# EAGLE library part PCF8523 (library IntegerLabs)
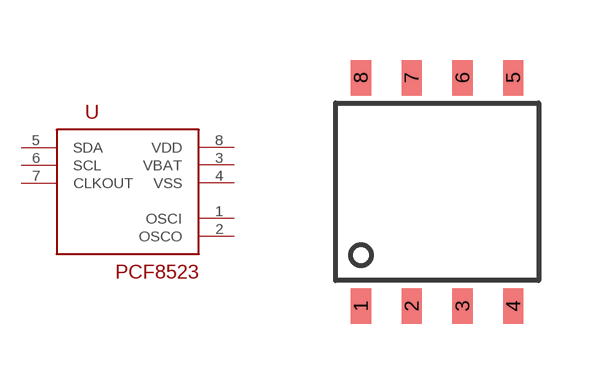
[diagram p19: symbol with the pads of SOIC-8; footprint SOIC-8]

Designator prefix -

## PCF8523  [SOIC-8]
1  OSCI
2  OSCO
3  VBAT
4  VSS
5  SDA
6  SCL
7  CLKOUT
8  VDD

## Footprint SOIC-8 (pad centres in mm)
smd 0.508 x 0.889: 1 -1.27,-3.175; 2 0,-3.175; 3 1.27,-3.175; 4 2.54,-3.175; 5 2.54,2.54; 6 1.27,2.54; 7 0,2.54; 8 -1.27,2.54